# Altium footprint library CONNECTOR.PcbLib: 181 footprints (part 5 of 12)
Each footprint in its own frame and in the unit in brackets; x right, y up, seen from the top. Pads: shape width x height; smd on the part's side, far side on the other; paste and mask are expansions set on the pad; w line width, h text height; cw(c..) or ccw(c..) is an arc to the next point about the centre after c.
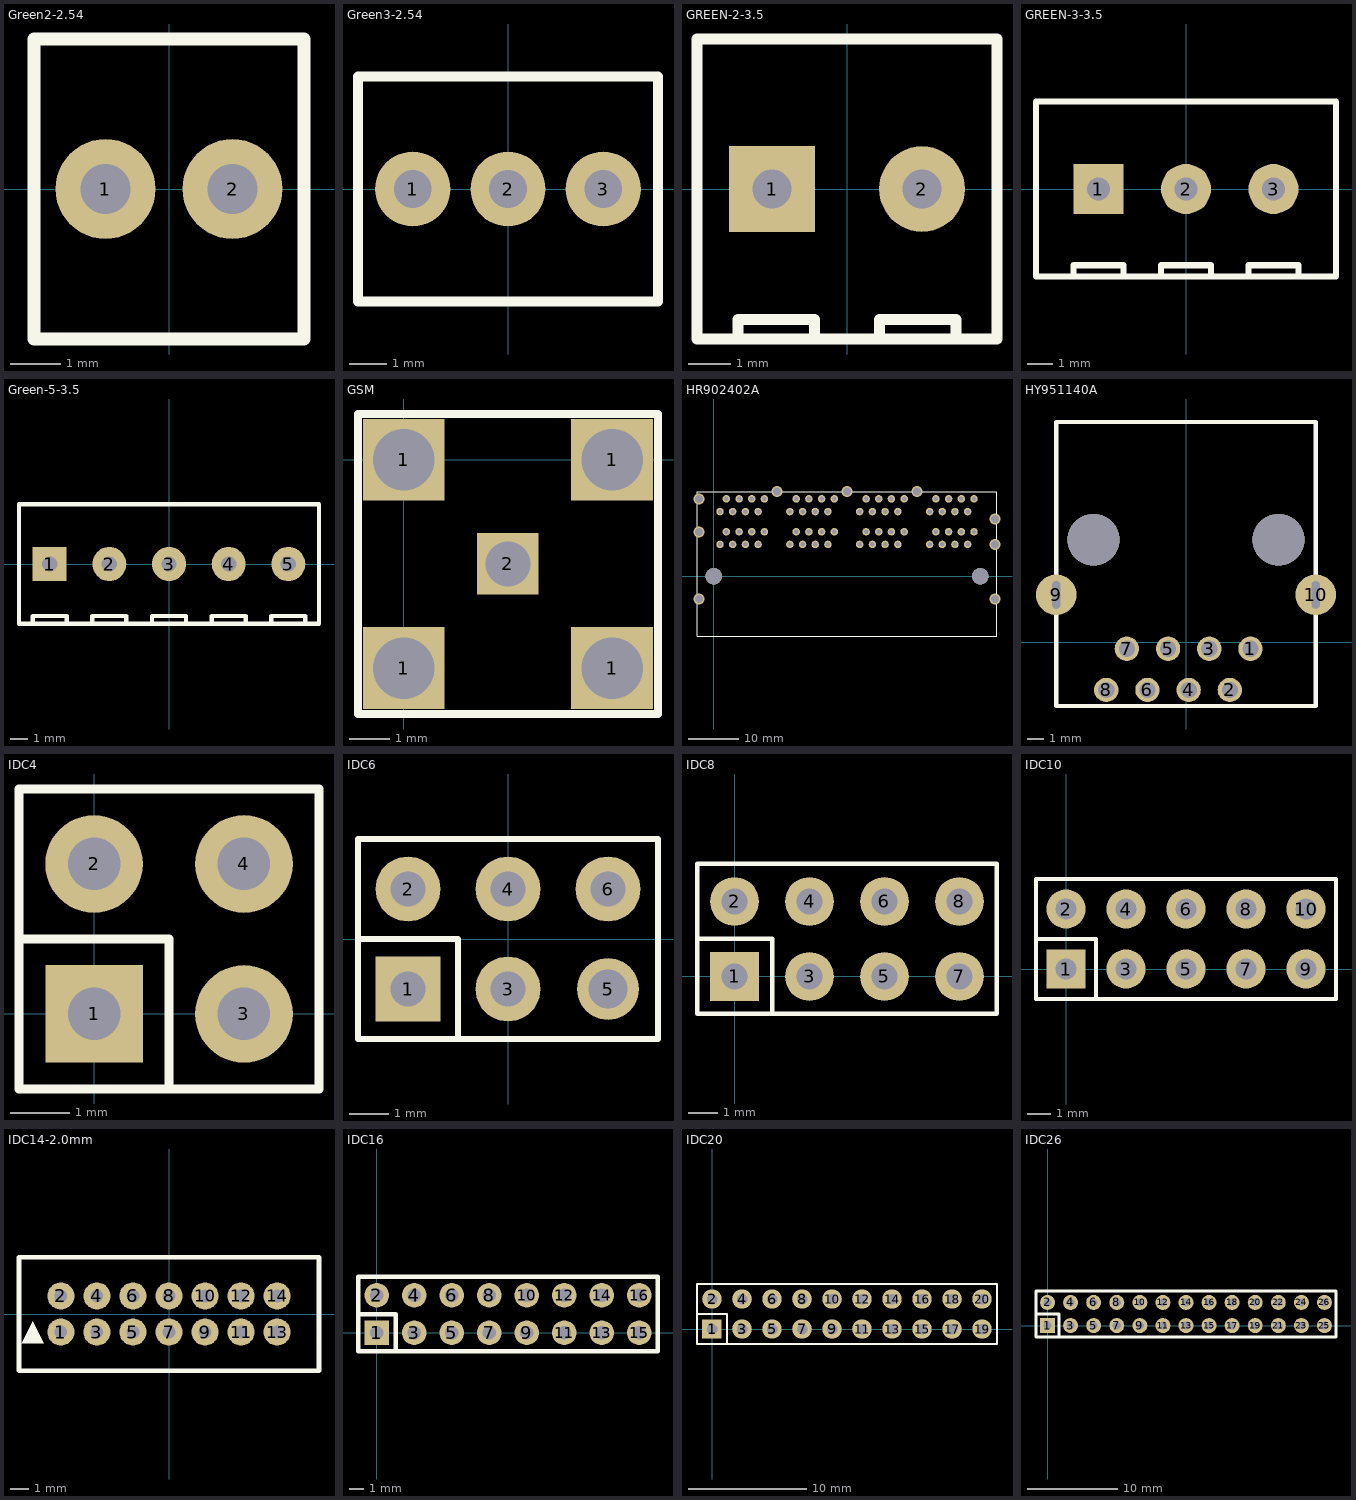
[diagram p4: the footprints below, top view; thin cyan lines are the x and y axes]

## Green2-2.54 [mm]
height 8
pads (2):
  round 2 hole 1: 1(-1.27,0) 2(1.27,0)
Top Overlay:
  lines w0.254: -2.7,-3 -2.7,3 2.7,3 2.7,-3 -2.7,-3

## Green3-2.54 [mm]
height 8.5
pads (3):
  round 2 hole 1: 1(-2.54,0) 2(0,0) 3(2.54,0)
Top Overlay:
  lines w0.254: -4,-3 4,-3 4,3 -4,3 -4,-3

## GREEN-2-3.5 [mm] "绿色、顶调螺丝3.5mm间距"
height 8.5
pads (2):
  rect 2x2 hole 0.9: 1(-1.75,0)
  round 2 hole 0.9: 2(1.75,0)
Top Overlay:
  lines w0.254: -2.54,-3.5 -2.54,-3.048 -0.762,-3.048 -0.762,-3.5 ; 0.762,-3.5 0.762,-3.048 2.54,-3.048 2.54,-3.5 ; -3.5,-3.5 3.5,-3.5 3.5,3.5 -3.5,3.5 -3.5,-3.5

## GREEN-3-3.5 [mm] "3.5mm pitch,green color,socket"
height 9.2
pads (3):
  rect 2x2 hole 0.9: 1(-3.5,0)
  round 2 hole 0.9: 2(0,0) 3(3.5,0)
Top Overlay:
  lines w0.254: -4.5,-3.372 -4.5,-3.048 -2.5,-3.048 -2.5,-3.404 ; -1,-3.5 -1,-3.048 1,-3.048 1,-3.46 ; 2.5,-3.484 2.5,-3.048 4.5,-3.048 4.5,-3.484 ; -6,-3.5 -6,3.5 6,3.5 6,-3.5 -6,-3.5

## Green-5-3.5 [mm]
pads (5):
  rect 2x2 hole 0.9: 1(-7,0)
  round 2 hole 0.9: 2(-3.5,0) 3(0,0) 4(3.5,0) 5(7,0)
Top Overlay:
  lines w0.254: -8,-3.372 -8,-3.048 -6,-3.048 -6,-3.404 ; -4.5,-3.5 -4.5,-3.048 -2.5,-3.048 -2.5,-3.46 ; -1,-3.484 -1,-3.048 1,-3.048 1,-3.484 ; 2.5,-3.46 2.5,-3.048 4.5,-3.048 4.5,-3.428 ; 6,-3.404 6,-3.048 8,-3.048 8,-3.372 ; -8.8,-3.5 8.8,-3.5 8.8,3.5 -8.8,3.5 -8.8,-3.5

## GSM [mm]
pads (5):
  rect 2x2 hole 1.5 paste+0: 1(0,-5.1) 1(0,0) 1(5.1,-5.1) 1(5.1,0)
  rect 1.5x1.5 hole 1.1 paste+0: 2(2.55,-2.55)
Top Overlay:
  lines w0.2: -1.118,-6.223 -1.118,1.118 6.223,1.118 6.223,-6.223 -1.118,-6.223

## HR902402A [mm] "RJ45  2*4 HANRUN"
height 25.2
pads (64):
  round 1.5 hole 0.889: P11(1.27,6.35) P12(3.81,6.35) P13(6.35,6.35) P14(8.89,6.35) P15(2.54,8.89) P16(5.08,8.89) P17(7.62,8.89) P18(10.16,8.89) P21(10.16,15.469) P22(7.62,15.469) P23(5.08,15.469) P24(2.54,15.469) P25(8.89,12.929) P26(6.35,12.929) P27(3.81,12.929) P27(31.75,12.929) P28(1.27,12.929) P31(15.24,6.35) P32(17.78,6.35) P33(20.32,6.35) P34(22.86,6.35) P35(16.51,8.89) P36(19.05,8.89) P37(21.59,8.89) P38(24.13,8.89) P41(21.59,15.469) P42(24.13,15.469) P43(19.05,15.469) P44(16.51,15.469) P45(22.86,12.929) P46(20.32,12.929) P47(17.78,12.929) P48(15.24,12.929) P51(29.21,6.35) P52(31.75,6.35) P53(34.29,6.35) P54(36.83,6.35) P55(30.48,8.89) P56(33.02,8.89) P57(35.56,8.89) P58(38.1,8.89) P61(38.1,15.469) P62(35.56,15.469) P63(33.02,15.469) P64(30.48,15.469) P65(36.83,12.929) P66(34.29,12.929) P68(29.21,12.929) P71(43.18,6.35) P72(45.72,6.35) P73(48.26,6.35) P74(50.8,6.35) P75(44.45,8.89) P76(46.99,8.89) P77(49.53,8.89) P78(52.07,8.89) P81(52.07,15.469) P82(49.53,15.469) P83(46.99,15.469) P84(44.45,15.469) P85(50.8,12.929) P86(48.26,12.929) P87(45.72,12.929) P88(43.18,12.929)
via -2.896,8.89 diameter 2.2 hole 1.6
via 56.236,6.35 diameter 2.2 hole 1.6
via 53.34,0 diameter 3.25 hole 3.25
via 0,0 diameter 3.25 hole 3.25
via 56.236,11.405 diameter 2.2 hole 1.6
via 56.236,-4.572 diameter 2.2 hole 1.6
via -2.896,15.469 diameter 2.2 hole 1.6
via -2.896,-4.572 diameter 2.2 hole 1.6
via 40.64,16.942 diameter 2.2 hole 1.6
via 12.7,16.942 diameter 2.2 hole 1.6
via 26.67,16.942 diameter 2.2 hole 1.6
Top Overlay:
  lines w0.152: -3.33,-12.058 -3.33,16.942 56.67,16.942 56.67,-12.058 -3.33,-12.058

## HY951140A [mm] "For Hanrun 1*1 port upright RJ45"
height 17.5
pads (10):
  round 1.5 hole 1: 1(3.975,-0.395) 2(2.705,-2.935) 3(1.435,-0.395) 4(0.165,-2.935) 5(-1.105,-0.395) 6(-2.375,-2.935) 7(-3.645,-0.395) 8(-4.915,-2.935)
  round 2.5 hole 0.5 slot 1.7 at 90 deg: 9(-8,2.935) 10(8,2.935)
via -5.7,6.325 diameter 3.2 hole 3.2
via 5.7,6.325 diameter 3.2 hole 3.2
Top Overlay:
  lines w0.254: -8,-3.935 8,-3.935 8,13.6 -8,13.6 -8,-3.935

## IDC4 [mil]
pads (4):
  rect 65x65 hole 35: 1(0,0)
  round 65 hole 35: 2(0,100) 3(100,0) 4(100,100)
Top Overlay:
  lines w6: -50,50 50,50 50,-50 ; -50,-50 150,-50 150,150 -50,150 -50,-50

## IDC6 [mil]
pads (6):
  rect 65x65 hole 35: 1(-100,-50)
  round 65 hole 35: 2(-100,50) 3(0,-50) 4(0,50) 6(100,50)
  round 62 hole 39.37: 5(100,-50)
Top Overlay:
  lines w6: -150,0 -50,0 -50,-100 ; -150,-100 150,-100 150,100 -150,100 -150,-100

## IDC8 [mil]
pads (8):
  rect 65x65 hole 35: 1(0,0)
  round 65 hole 35: 2(0,100) 3(100,0) 4(100,100) 5(200,0) 6(200,100) 7(300,0) 8(300,100)
Top Overlay:
  lines w6: -50,50 50,50 50,-50 ; -50,-50 -50,150 350,150 350,-50 -50,-50

## IDC10 [mil]
pads (10):
  rect 65x65 hole 35: 1(0,0)
  round 65 hole 35: 2(0,100) 3(100,0) 4(100,100) 5(200,0) 6(200,100) 7(300,0) 8(300,100) 9(400,0) 10(400,100)
Top Overlay:
  lines w6: -50,50 50,50 50,-50 ; -50,-50 450,-50 450,150 -50,150 -50,-50

## IDC14-2.0mm [mm]
height 6.4
pads (14):
  round 1.5 hole 0.7: 1(-6,-1) 2(-6,1) 3(-4,-1) 4(-4,1) 5(-2,-1) 6(-2,1) 7(0,-1) 8(0,1) 9(2,-1) 10(2,1) 11(4,-1) 12(4,1) 13(6,-1) 14(6,1)
Top Overlay:
  region: -7.569,-0.406 -8.179,-1.626 -6.96,-1.626
  lines w0.254: -8.325,-3.15 -8.325,3.15 8.325,3.15 8.325,-3.15 -8.325,-3.15

## IDC16 [mil]
pads (16):
  rect 65x65 hole 35: 1(0,0)
  round 65 hole 35: 2(0,100) 3(100,0) 4(100,100) 5(200,0) 6(200,100) 7(300,0) 8(300,100) 9(400,0) 10(400,100) 11(500,0) 12(500,100) 13(600,0) 14(600,100) 15(700,0) 16(700,100)
Top Overlay:
  lines w12: -50,50 50,50 50,-50 ; -50,-50 750,-50 750,150 -50,150 -50,-50

## IDC20 [mil]
pads (20):
  rect 65x65 hole 35: 1(0,0)
  round 65 hole 35: 2(0,100) 3(100,0) 4(100,100) 5(200,0) 6(200,100) 7(300,0) 8(300,100) 9(400,0) 10(400,100) 11(500,0) 12(500,100) 13(600,0) 14(600,100) 15(700,0) 16(700,100) 17(800,0) 18(800,100) 19(900,0) 20(900,100)
Top Overlay:
  lines w6: -50,50 50,50 50,-50 ; -50,-50 950,-50 950,150 -50,150 -50,-50

## IDC26 [mil]
pads (26):
  rect 65x65 hole 35: 1(0,0)
  round 65 hole 35: 2(0,100) 3(100,0) 4(100,100) 5(200,0) 6(200,100) 7(300,0) 8(300,100) 9(400,0) 10(400,100) 11(500,0) 12(500,100) 13(600,0) 14(600,100) 15(700,0) 16(700,100) 17(800,0) 18(800,100) 19(900,0) 20(900,100) 21(1000,0) 22(1000,100) 23(1100,0) 24(1100,100) 25(1200,0) 26(1200,100)
Top Overlay:
  lines w12: -50,50 50,50 50,-50 ; -50,-50 1250,-50 1250,150 -50,150 -50,-50